# EAGLE library part BNO055 (library ICs)
Accelerometer, Gyroscope, Magnetometer, 3 Axis Sensor I²C, UART Output
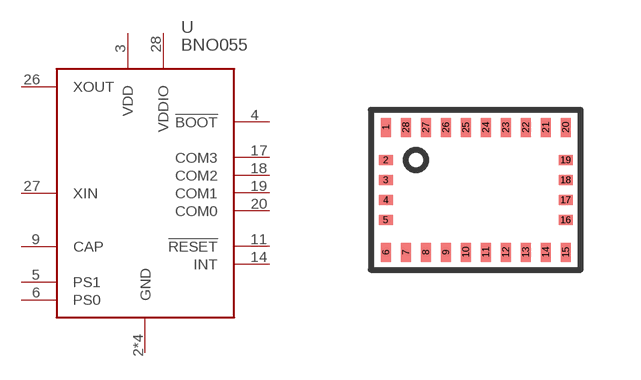
[diagram p205: symbol with the pads of LGA28_BNO055; footprint LGA28_BNO055]

Designator prefix U

## BNO055 (DIGIKEY: 828-1058-1-ND; HEIGHT: 1.2; PRICE_PER: 9.44; VALUE: BNO055)  [LGA28_BNO055]
2  GND
3  VDD
4  !BOOT
5  PS1
6  PS0
9  CAP
11  !RESET
14  INT
15  GND
16  GND
17  COM3
18  COM2
19  COM1
20  COM0
25  GND
26  XOUT
27  XIN
28  VDDIO

## Footprint LGA28_BNO055 (pad centres in mm)
smd 0.25 x 0.475: 1 -2.25,1.562; 6 -2.25,-1.562; 7 -1.75,-1.562; 8 -1.25,-1.562; 9 -0.75,-1.562; 10 -0.25,-1.562; 11 0.25,-1.562; 12 0.75,-1.562; 13 1.25,-1.562; 14 1.75,-1.562; 15 2.25,-1.562; 20 2.25,1.562; 21 1.75,1.562; 22 1.25,1.562; 23 0.75,1.562; 24 0.25,1.562; 25 -0.25,1.562; 26 -0.75,1.562; 27 -1.25,1.562; 28 -1.75,1.562
smd 0.35 x 0.25: 2 -2.25,0.75; 3 -2.25,0.25; 4 -2.25,-0.25; 5 -2.25,-0.75; 16 2.25,-0.75; 17 2.25,-0.25; 18 2.25,0.25; 19 2.25,0.75